# Altium footprint library AD5675BCPZ-REEL7.PcbLib: 1 footprints
Each footprint in its own frame and in the unit in brackets; x right, y up, seen from the top. Pads: shape width x height; smd on the part's side, far side on the other; paste and mask are expansions set on the pad; w line width, h text height; cw(c..) or ccw(c..) is an arc to the next point about the centre after c.
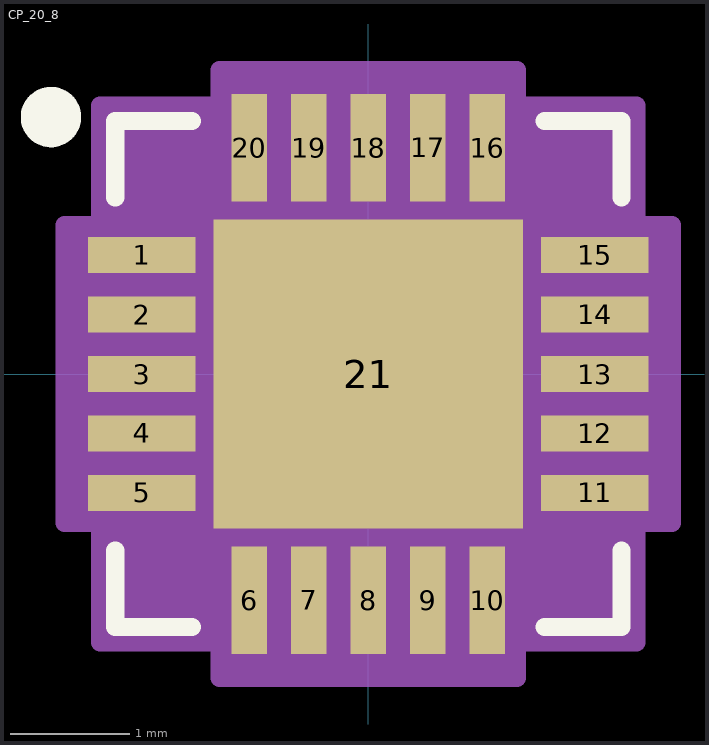
[diagram p0: the footprint, top view; thin cyan lines are the x and y axes]

## CP_20_8 [mm]
pads (21):
  rect 0.905x0.3 smd paste+0 mask+0: 1(-1.902,1) 2(-1.902,0.5) 3(-1.902,0) 4(-1.902,-0.5) 5(-1.902,-1) 11(1.902,-1) 12(1.902,-0.5) 13(1.902,0) 14(1.902,0.5) 15(1.902,1)
  rect 0.3x0.905 smd paste+0 mask+0: 6(-1,-1.902) 7(-0.5,-1.902) 8(0,-1.902) 9(0.5,-1.902) 10(1,-1.902) 16(1,1.902) 17(0.5,1.902) 18(0,1.902) 19(-0.5,1.902) 20(-1,1.902)
  rect 2.6x2.6 smd paste-1.287 mask+0: 21(0,0)
Top Overlay:
  circle w0.254: c-2.667,2.159 r0.127
  lines w0.152: -2.127,-1.483 -2.127,-2.127 -1.483,-2.127 ; -2.127,1.483 -2.127,2.127 -1.483,2.127 ; 1.483,-2.127 2.127,-2.127 2.127,-1.483 ; 1.483,2.127 2.127,2.127 2.127,1.483
Top Paste:
  region: 1.2,-0.1 0.1,-0.1 0.1,-1.2 1.2,-1.2
  region: 1.2,1.2 0.1,1.2 0.1,0.1 1.2,0.1
  region: -0.1,-0.1 -1.2,-0.1 -1.2,-1.2 -0.1,-1.2
  region: -0.1,1.2 -1.2,1.2 -1.2,0.1 -0.1,0.1
Mechanical 13:
  lines w0.025: -2,0.73 -0.73,2 ; -2.05,-1.15 -2,-1.15 -2,-0.85 -2.05,-0.85 -2.05,-1.15 ; -2.05,-0.65 -2,-0.65 -2,-0.35 -2.05,-0.35 -2.05,-0.65 ; -2.05,-0.15 -2,-0.15 -2,0.15 -2.05,0.15 -2.05,-0.15 ; -2.05,0.35 -2,0.35 -2,0.65 -2.05,0.65 -2.05,0.35 ; -2.05,0.85 -2,0.85 -2,1.15 -2.05,1.15 -2.05,0.85 ; -2,-2 -2,2 2,2 2,-2 -2,-2 ; -1.15,-2.05 -0.85,-2.05 -0.85,-2 -1.15,-2 -1.15,-2.05 ; -1.15,2 -1.15,2.05 -0.85,2.05 -0.85,2 -1.15,2 ; -0.65,-2.05 -0.35,-2.05 -0.35,-2 -0.65,-2 -0.65,-2.05 ; -0.65,2 -0.65,2.05 -0.35,2.05 -0.35,2 -0.65,2 ; -0.15,-2.05 0.15,-2.05 0.15,-2 -0.15,-2 -0.15,-2.05 ; -0.15,2 -0.15,2.05 0.15,2.05 0.15,2 -0.15,2 ; 0.35,-2.05 0.65,-2.05 0.65,-2 0.35,-2 0.35,-2.05 ; 0.35,2 0.35,2.05 0.65,2.05 0.65,2 0.35,2 ; 0.85,-2.05 1.15,-2.05 1.15,-2 0.85,-2 0.85,-2.05 ; 0.85,2 0.85,2.05 1.15,2.05 1.15,2 0.85,2 ; 2,-1.15 2.05,-1.15 2.05,-0.85 2,-0.85 2,-1.15 ; 2,-0.65 2.05,-0.65 2.05,-0.35 2,-0.35 2,-0.65 ; 2,-0.15 2.05,-0.15 2.05,0.15 2,0.15 2,-0.15 ; 2,0.35 2.05,0.35 2.05,0.65 2,0.65 2,0.35 ; 2,0.85 2.05,0.85 2.05,1.15 2,1.15 2,0.85
  text "*" at -1.767,0.615 h1.27
Mechanical 15:
  region: -1.25,-2.254 -2.254,-2.254 -2.254,-1.25 -2.554,-1.25 -2.554,1.25 -2.254,1.25 -2.254,2.254 -1.25,2.254 -1.25,2.554 1.25,2.554 1.25,2.254 2.254,2.254 2.254,1.25 2.554,1.25 2.554,-1.25 2.254,-1.25 2.254,-2.254 1.25,-2.254 1.25,-2.554 -1.25,-2.554
  lines w0.152: -2.554,-1.25 -2.554,1.25 -2.254,1.25 -2.254,2.254 -1.25,2.254 -1.25,2.554 1.25,2.554 1.25,2.254 2.254,2.254 2.254,1.25 2.554,1.25 2.554,-1.25 2.254,-1.25 2.254,-2.254 1.25,-2.254 1.25,-2.554 -1.25,-2.554 -1.25,-2.254 -2.254,-2.254 -2.254,-1.25 -2.554,-1.25
3D body "CP_20_8.stp": height 0.75, standoff 0, extent -2.05,-2.05 2.05,2.05
3D body: height 0.25, standoff 0, extent 0,0 0.254,0.254